# Altium footprint library Specific Footprints.PcbLib: 54 footprints (part 4 of 4)
Each footprint in its own frame and in the unit in brackets; x right, y up, seen from the top. Pads: shape width x height; smd on the part's side, far side on the other; paste and mask are expansions set on the pad; w line width, h text height; cw(c..) or ccw(c..) is an arc to the next point about the centre after c.
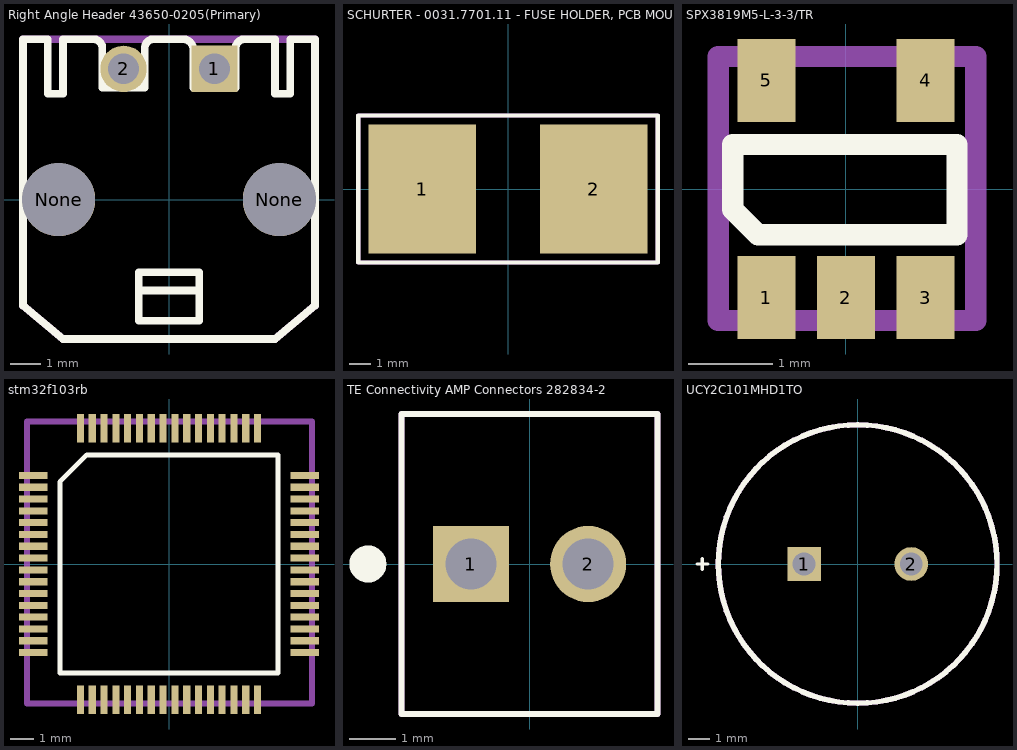
[diagram p3: the footprints below, top view; thin cyan lines are the x and y axes]

## Right Angle Header 43650-0205(Primary) [mm]
pads (4):
  rect 1.53x1.53 hole 1.02: 1(1.5,4.32)
  round 1.53 hole 1.02: 2(-1.5,4.32)
  round 2.413 hole 2.413 unplated: None(-3.645,0) None(3.645,0)
Top Overlay:
  lines w0.254: 0.499,5.3 cw(c0.45,4.95) 0.8,4.999 ; 0.5,5.3 -0.5,5.3 ccw(c-0.5,5) -0.8,5 -0.8,3.7 -2.2,3.7 -2.2,5 ccw(c-2.5,5) -2.5,5.3 -3.5,5.3 -3.5,3.5 -4,3.5 -4,5.3 -4.82,5.3 -4.82,-3.5 -3.5,-4.6 3.5,-4.6 4.82,-3.5 4.82,5.3 4,5.3 4,3.5 3.5,3.5 3.5,5.3 2.5,5.3 ccw(c2.5,5) 2.2,5 2.2,3.7 0.8,3.7 0.8,5 ; -1,-3 1,-3 ; -1,-3 -1,-2.4 1,-2.4 1,-3 ; -1,-3 -1,-4 1,-4 1,-3
Mechanical 5:
  lines w0.254: -4.82,-3.5 -4.82,5.3 -4,5.3 -3.5,5.3 -2.5,5.3 -1.1,5.3 0.5,5.3 1.9,5.3 3.5,5.3 4,5.3 4.82,5.3 4.82,-3.5 3.5,-4.6 -3.5,-4.6 -4.82,-3.5
  text "'.Designator'" at -3.5,1.524 h0.71
3D body "Right Angle Header 436500205.stp": height 5.58, standoff -3.21, extent -4.825,-4.594 4.825,5.306

## SCHURTER - 0031.7701.11 - FUSE HOLDER, PCB MOUNT [mm]
pads (2):
  rect 5x6 smd: 1(-4,0) 2(4,0)
Top Overlay:
  lines w0.2: -6.985,-3.429 6.985,-3.429 6.985,3.429 -6.985,3.429 -6.985,-3.429
Mechanical 5:
  lines w0.2: -6.985,-3.429 6.985,-3.429 6.985,3.429 -6.985,3.429 -6.985,1.714 -6.985,-1.714 -6.985,-3.429
  text "'.Designator'" at -0.635,0.254 h0.69
3D body: height 1.1, standoff 0, extent 0,0 0,0
3D body "FUSE HLDR CARTRIDGE 125V 5A SMD.STEP": height 6.01, standoff 0.01, extent -6.04,-2.6 6.04,2.6

## SPX3819M5-L-3-3/TR [mm] "IC REG LINEAR 3.3V 500MA SOT23-5"
pads (5):
  rect 0.69x0.99 smd: 1(-0.95,-1.295) 2(0,-1.295) 3(0.95,-1.295) 4(0.95,1.295) 5(-0.95,1.295)
Top Overlay:
  lines w0.254: -1.35,-0.245 -1.35,0.53 1.325,0.53 1.325,-0.545 -1.05,-0.545 -1.35,-0.245
Mechanical 5:
  lines w0.254: -1.525,-1.57 1.55,-1.57 1.55,1.58 -1.525,1.58 -1.525,-1.57
  text "'.Designator'" at -1.15,-0.02 h0.2

## stm32f103rb [mm]
pads (64):
  rect 1.2x0.3 smd: 1(-5.75,3.75) 2(-5.75,3.25) 3(-5.75,2.75) 4(-5.75,2.25) 5(-5.75,1.75) 6(-5.75,1.25) 7(-5.75,0.75) 8(-5.75,0.25) 9(-5.75,-0.25) 10(-5.75,-0.75) 11(-5.75,-1.25) 12(-5.75,-1.75) 13(-5.75,-2.25) 14(-5.75,-2.75) 15(-5.75,-3.25) 16(-5.75,-3.75) 33(5.75,-3.75) 34(5.75,-3.25) 35(5.75,-2.75) 36(5.75,-2.25) 37(5.75,-1.75) 38(5.75,-1.25) 39(5.75,-0.75) 40(5.75,-0.25) 41(5.75,0.25) 42(5.75,0.75) 43(5.75,1.25) 44(5.75,1.75) 45(5.75,2.25) 46(5.75,2.75) 47(5.75,3.25) 48(5.75,3.75)
  rect 0.3x1.2 smd: 17(-3.75,-5.75) 18(-3.25,-5.75) 19(-2.75,-5.75) 20(-2.25,-5.75) 21(-1.75,-5.75) 22(-1.25,-5.75) 23(-0.75,-5.75) 24(-0.25,-5.75) 25(0.25,-5.75) 26(0.75,-5.75) 27(1.25,-5.75) 28(1.75,-5.75) 29(2.25,-5.75) 30(2.75,-5.75) 31(3.25,-5.75) 32(3.75,-5.75) 49(3.75,5.75) 50(3.25,5.75) 51(2.75,5.75) 52(2.25,5.75) 53(1.75,5.75) 54(1.25,5.75) 55(0.75,5.75) 56(0.25,5.75) 57(-0.25,5.75) 58(-0.75,5.75) 59(-1.25,5.75) 60(-1.75,5.75) 61(-2.25,5.75) 62(-2.75,5.75) 63(-3.25,5.75) 64(-3.75,5.75)
Top Overlay:
  lines w0.2: -4.615,-4.615 -4.615,3.48 -3.48,4.615 4.615,4.615 4.615,-4.615 -4.615,-4.615
Mechanical 5:
  lines w0.254: -6.004,-5.902 6.061,-5.902 6.061,6.036 -6.004,6.036 -6.004,-5.902
  text "'.Designator'" at -4.353,-0.568 h0.76
Mechanical 29:
  text "'.Designator'" at -4.35,-0.95 h0.7
3D body "STM32 LQFP64.step": height 1.6, standoff 0, extent -5.95,-5.95 6.05,6.05

## TE Connectivity AMP Connectors 282834-2 [mm] "TERM BLK 2P SIDE ENT 2.54MM PCB"
pads (2):
  rect 1.65x1.65 hole 1.1: 1(-1.27,0)
  round 1.65 hole 1.1: 2(1.27,0)
Top Overlay:
  circle w0.4: c-3.502,0 r0.2
  lines w0.127: -2.77,-3.25 -2.77,3.25 2.77,3.25 2.77,-3.25 -2.77,-3.25
Mechanical 5:
  lines w0.127: -2.77,-3.25 2.77,-3.25 2.77,3.25 -2.77,3.25 -2.77,-3.25
  text "'.Designator'" at -2.159,1.143 h0.5
3D body "TD Connectivity 28234-2.stp": height 10, standoff -3.4, extent -2.746,-3.302 2.795,3.198

## UCY2C101MHD1TO [mil]
pads (2):
  rect 62x62 hole 42: 1(-98.43,0)
  round 62 hole 42: 2(98.43,0)
Top Overlay:
  circle w10: c0,0 r255.91
  lines w5.98: -295.28,0 -275.59,0 ; -285.43,-9.84 -285.43,9.84
Mechanical 5:
  circle w10: c0,0 r255.91
  text "'.Designator'" at -137.8,-19.68 h39.37
3D body "U1-Y.step": height 778.1, standoff -195.48, extent -246.06,-245.87 246.54,245.87